# EAGLE library part USB_PHY-SMSC-USB3320 (library USB3320)
SMSC USB3320 High Speed USB 2.0 PHY, ULPI Transceiver. mfg.: SMSC, Package: QFN32, Digikey Part No.: USB3320C-EZK-CT-ND
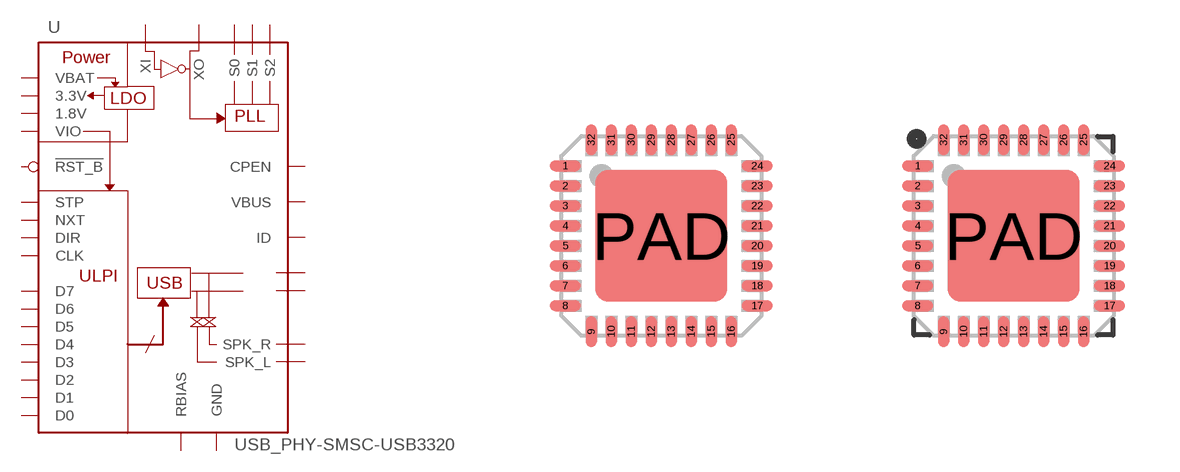
[diagram p0: symbol with the pads of QFN-32-5X5-NOSILK; footprints QFN-32-5X5-NOSILK, QFN32-5X5]

Designator prefix U

## USB_PHY-SMSC-USB3320-QFN-32-5X5-NOSILK  [QFN-32-5X5-NOSILK]
1  CLK  out
2  NXT  out
3  D0
4  D1
5  D2
6  D3
7  D4
8  S0  in
9  D5
10  D6
11  S1  in
13  D7
14  S2  in
15  SPK_L  pas
16  SPK_R  pas
17  CPEN  out
18  DP/DM  pas
19  DM/DP  pas
20  3.3V  pwr
21  VBAT  pwr
22  VBUS  pas
23  ID  pas
24  RBIAS  pas
25  XO  pas
26  XI  pas
27  !RST_B  in
28  1.8V  pwr
29  STP  in
30  1.8V  pwr
31  DIR  out
32  VIO  pwr
PAD  GND  pwr

## USB_PHY-SMSC-USB3320-QFN32-5X5 (DMDP: DM; DPDM: DP)  [QFN32-5X5]
Pads as for QFN-32-5X5-NOSILK

## Footprint QFN-32-5X5-NOSILK (pad centres in mm)
QFN-32 5x5x0.5mm, 32 rectangular leads + Thermal Center Pad, no silkscreen Quad Flat No-lead. Other Names: "MLFP" Micro Lead Frame Plastic, "QFPN" Quad Flat Package No-leads.
smd 0.78 x 0.28: 1 -2.4,1.75; 2 -2.4,1.25; 3 -2.4,0.75; 4 -2.4,0.25; 5 -2.4,-0.25; 6 -2.4,-0.75; 7 -2.4,-1.25; 8 -2.4,-1.75; 17 2.4,-1.75; 18 2.4,-1.25; 19 2.4,-0.75; 20 2.4,-0.25; 21 2.4,0.25; 22 2.4,0.75; 23 2.4,1.25; 24 2.4,1.75
smd 0.28 x 0.78: 9 -1.75,-2.4; 10 -1.25,-2.4; 11 -0.75,-2.4; 12 -0.25,-2.4; 13 0.25,-2.4; 14 0.75,-2.4; 15 1.25,-2.4; 16 1.75,-2.4; 25 1.75,2.4; 26 1.25,2.4; 27 0.75,2.4; 28 0.25,2.4; 29 -0.25,2.4; 30 -0.75,2.4; 31 -1.25,2.4; 32 -1.75,2.4
smd 3.3 x 3.3: PAD 0,0

## Footprint QFN32-5X5 (pad centres in mm)
QFN-32 5x5x0.5mm, 32 rectangular leads + Thermal Center Pad Quad Flat No-lead. Other Names: "MLFP" Micro Lead Frame Plastic, "QFPN" Quad Flat Package No-leads.
smd 0.78 x 0.28: 1 -2.4,1.75; 2 -2.4,1.25; 3 -2.4,0.75; 4 -2.4,0.25; 5 -2.4,-0.25; 6 -2.4,-0.75; 7 -2.4,-1.25; 8 -2.4,-1.75; 17 2.4,-1.75; 18 2.4,-1.25; 19 2.4,-0.75; 20 2.4,-0.25; 21 2.4,0.25; 22 2.4,0.75; 23 2.4,1.25; 24 2.4,1.75
smd 0.28 x 0.78: 9 -1.75,-2.4; 10 -1.25,-2.4; 11 -0.75,-2.4; 12 -0.25,-2.4; 13 0.25,-2.4; 14 0.75,-2.4; 15 1.25,-2.4; 16 1.75,-2.4; 25 1.75,2.4; 26 1.25,2.4; 27 0.75,2.4; 28 0.25,2.4; 29 -0.25,2.4; 30 -0.75,2.4; 31 -1.25,2.4; 32 -1.75,2.4
smd 3.3 x 3.3: PAD 0,0